# Altium schematic symbol library l2.SchLib: 1 symbol
Pins are listed as number, name and electrical type; pins without a type are passive.

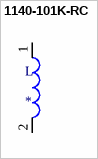
[diagram p0: symbol 1140-101K-RC]

## 1140-101K-RC
designator L
100ÂµH Unshielded Wirewound Inductor 10.5A 25mOhm Max Radial, Vertical Cylinder; MP: 1140-101K-RC; MF: Bourns; Value: *; Package: Radial Bourns; SnapEDA_Link: https://www.snapeda.com/parts/1140-101K-RC/Bourns%20-%20J.W.%20Miller/view-part/267430/?ref=snap; Digi-Key_Part_Number: M8377-ND; Digi-Key_Purchase_URL: https://www.digikey.com/product-detail/en/bourns-inc/1140-101K-RC/M8377-ND/774917?utm_source=snapeda&utm_medium=aggregator&utm_campaign=symbol
footprint INDRD2921W163D3810H2616P
pins: 1, 2